# EAGLE library part LF20021121-08 (library con-amp-minitek)
HEADER
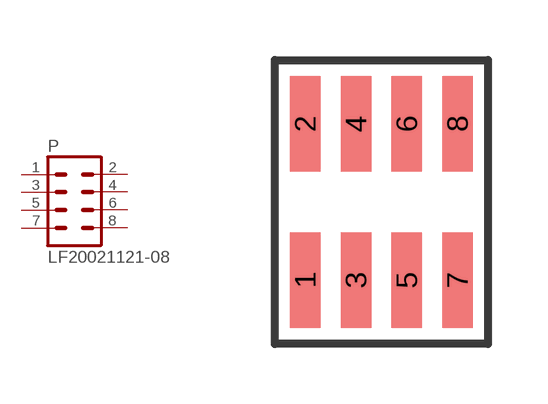
[diagram p1: symbol with the pads of LF20021121-08; footprint LF20021121-08]

Designator prefix P

## LF20021121-08  [LF20021121-08]
1  1  pas
2  2  pas
3  3  pas
4  4  pas
5  5  pas
6  6  pas
7  7  pas
8  8  pas

## Footprint LF20021121-08 (pad centres in mm)
HEADER
smd 0.762 x 2.388: 1 -1.905,-1.956; 2 -1.905,1.956; 3 -0.635,-1.956; 4 -0.635,1.956; 5 0.635,-1.956; 6 0.635,1.956; 7 1.905,-1.956; 8 1.905,1.956